# Altium footprint library Transistor.PcbLib: 227 footprints (part 11 of 15)
Each footprint in its own frame and in the unit in brackets; x right, y up, seen from the top. Pads: shape width x height; smd on the part's side, far side on the other; paste and mask are expansions set on the pad; w line width, h text height; cw(c..) or ccw(c..) is an arc to the next point about the centre after c.
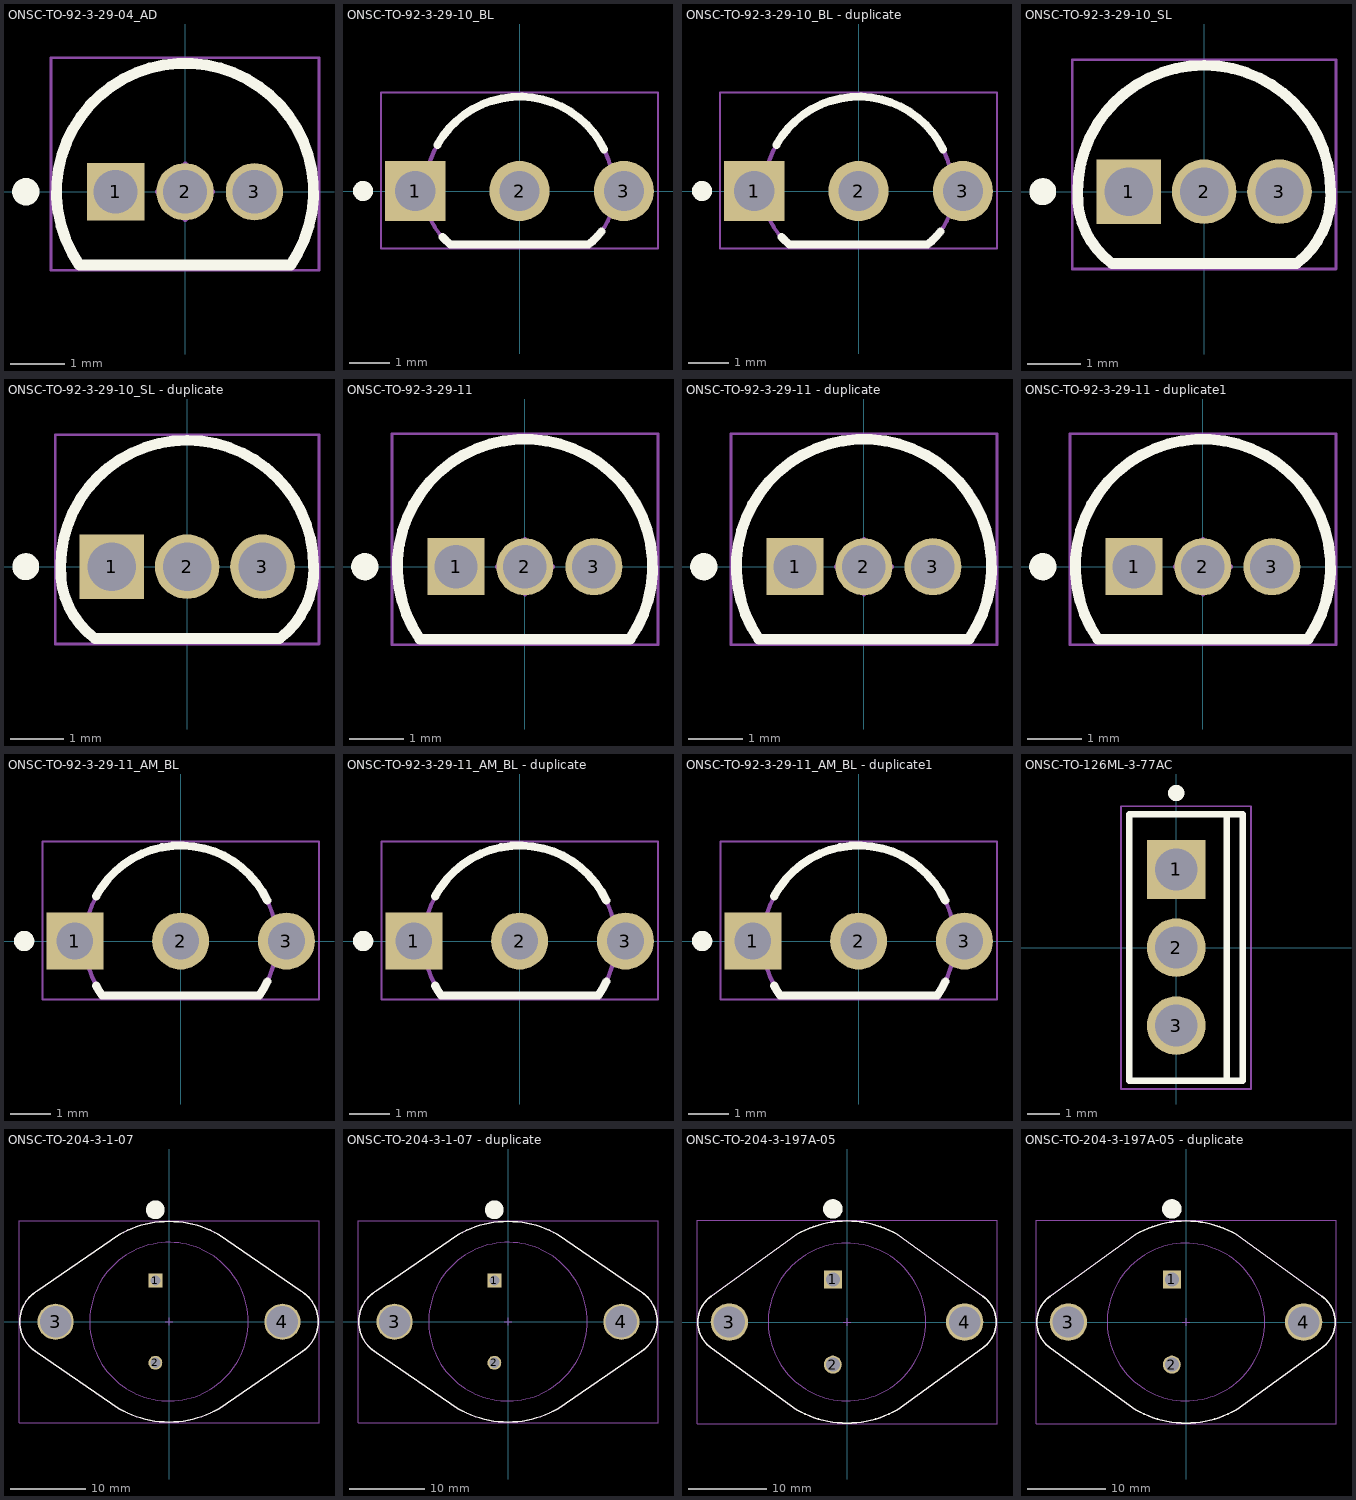
[diagram p10: the footprints below, top view; thin cyan lines are the x and y axes]

## ONSC-TO-92-3-29-04_AD [mm] "TO, 3-Leads, Body Dia 4.7mm, Pitch 1.27mm"
height 7.87
pads (3):
  rect 1.05x1.05 hole 0.8: 1(-1.27,0)
  round 1.05 hole 0.8: 2(0,0) 3(1.27,0)
Top Overlay:
  circle w0.25: c-2.911,0 r0.125
  lines w0.2: -1.933,-1.337 cw(c0,0) 1.933,-1.337 -1.933,-1.337
Mechanical 13:
  lines w0.1: -1.933,-1.337 cw(c0,0) 1.933,-1.337 ; -1.933,-1.335 1.933,-1.335
Mechanical 15:
  lines w0.05: -2.45,-1.435 2.45,-1.435 2.45,2.45 -2.45,2.45 -2.45,-1.435
  lines w0.1: -0.5,0 0.5,0 ; 0,-0.5 0,0.5
3D body: height 7.87, standoff 2.54, extent -2.357,-1.335 2.349,2.359

## ONSC-TO-92-3-29-10_BL [mm] "TO, 3-Leads, Body Dia 4.7 mm, Pitch 2.6 mm"
height 10.41
pads (3):
  rect 1.5x1.5 hole 1: 1(-2.6,0)
  round 1.5 hole 1: 2(0,0) 3(2.6,0)
Top Overlay:
  circle w0.25: c-3.9,0 r0.125
  lines w0.2: -2.05,1.15 cw(c0,0) 2.108,1.04 ; -1.922,-1.15 ccw(c-0.773,-0.068) -1.715,-1.335 1.715,-1.335 ccw(c0.773,-0.068) 2.043,-1.006
Mechanical 13:
  lines w0.1: -2.35,0 ccw(c-0.773,-0.068) -1.715,-1.335 1.715,-1.335 ccw(c0.773,-0.068) 2.35,0 ; -2.35,0 cw(c0,0) 2.35,0
Mechanical 15:
  lines w0.05: -3.45,-1.435 3.45,-1.435 3.45,2.45 -3.45,2.45 -3.45,-1.435
  lines w0.1: -0.5,0 0.5,0 ; 0,-0.5 0,0.5
3D body: height 10.41, standoff 2.54, extent -2.359,-1.336 2.352,0
3D body: height 7.87, standoff 2.54, extent -2.351,-0.001 2.351,2.351

## ONSC-TO-92-3-29-10_BL - duplicate [mm] "TO, 3-Leads, Body Dia 4.7 mm, Pitch 2.6 mm"
height 10.41
pads (3):
  rect 1.5x1.5 hole 1: 1(-2.6,0)
  round 1.5 hole 1: 2(0,0) 3(2.6,0)
Top Overlay:
  circle w0.25: c-3.9,0 r0.125
  lines w0.2: -2.05,1.15 cw(c0,0) 2.108,1.04 ; -1.922,-1.15 ccw(c-0.773,-0.068) -1.715,-1.335 1.715,-1.335 ccw(c0.773,-0.068) 2.043,-1.006
Mechanical 13:
  lines w0.1: -2.35,0 ccw(c-0.773,-0.068) -1.715,-1.335 1.715,-1.335 ccw(c0.773,-0.068) 2.35,0 ; -2.35,0 cw(c0,0) 2.35,0
Mechanical 15:
  lines w0.05: -3.45,-1.435 -3.45,2.45 3.45,2.45 3.45,-1.435 -3.45,-1.435
  lines w0.1: -0.5,0 0.5,0 ; 0,-0.5 0,0.5
3D body: height 7.87, standoff 2.54, extent -2.351,-0.001 2.351,2.351
3D body: height 10.41, standoff 2.54, extent -2.359,-1.336 2.352,0

## ONSC-TO-92-3-29-10_SL [mm] "TO, 3-Leads, Body Dia 4.7 mm, Pitch 1.27mm"
height 10.41
pads (3):
  rect 1.2x1.2 hole 0.9: 1(-1.4,0)
  round 1.2 hole 0.9: 2(0,0) 3(1.4,0)
Top Overlay:
  circle w0.25: c-3,0 r0.125
  lines w0.2: -2.35,0 ccw(c-0.773,-0.068) -1.715,-1.335 1.715,-1.335 ccw(c0.773,-0.068) 2.35,0 ; -2.35,0 cw(c0,0) 2.35,0
Mechanical 13:
  lines w0.1: -2.35,0 ccw(c-0.773,-0.068) -1.715,-1.335 1.715,-1.335 ccw(c0.773,-0.068) 2.35,0 ; -2.35,0 cw(c0,0) 2.35,0
Mechanical 15:
  lines w0.05: -2.45,-1.435 -2.45,2.45 2.45,2.45 2.45,-1.435 -2.45,-1.435
  lines w0.1: -0.5,0 0.5,0 ; 0,-0.5 0,0.5
3D body: height 10.41, standoff 2.54, extent -2.352,-1.335 2.359,2.351

## ONSC-TO-92-3-29-10_SL - duplicate [mm] "TO, 3-Leads, Body Dia 4.7 mm, Pitch 1.27mm"
height 10.41
pads (3):
  rect 1.2x1.2 hole 0.9: 1(-1.4,0)
  round 1.2 hole 0.9: 2(0,0) 3(1.4,0)
Top Overlay:
  circle w0.25: c-3,0 r0.125
  lines w0.2: -2.35,0 ccw(c-0.773,-0.068) -1.715,-1.335 1.715,-1.335 ccw(c0.773,-0.068) 2.35,0 ; -2.35,0 cw(c0,0) 2.35,0
Mechanical 13:
  lines w0.1: -2.35,0 ccw(c-0.773,-0.068) -1.715,-1.335 1.715,-1.335 ccw(c0.773,-0.068) 2.35,0 ; -2.35,0 cw(c0,0) 2.35,0
Mechanical 15:
  lines w0.05: -2.45,-1.435 -2.45,2.45 2.45,2.45 2.45,-1.435 -2.45,-1.435
  lines w0.1: -0.5,0 0.5,0 ; 0,-0.5 0,0.5
3D body: height 10.41, standoff 2.54, extent -2.352,-1.335 2.359,2.351

## ONSC-TO-92-3-29-11 [mm] "TO, 3-Leads, Body Dia 4.7mm, Pitch 1.27mm"
height 7.87
pads (3):
  rect 1.05x1.05 hole 0.8: 1(-1.27,0)
  round 1.05 hole 0.8: 2(0,0) 3(1.27,0)
Top Overlay:
  circle w0.25: c-2.95,0 r0.125
  lines w0.2: -1.934,-1.335 cw(c0,0) 1.934,-1.335 -1.934,-1.335
Mechanical 13:
  lines w0.1: -1.934,-1.335 cw(c0,0) 1.934,-1.335 -1.934,-1.335
Mechanical 15:
  lines w0.05: -2.45,-1.435 2.45,-1.435 2.45,2.45 -2.45,2.45 -2.45,-1.435
  lines w0.1: -0.5,0 0.5,0 ; 0,-0.5 0,0.5
3D body: height 7.87, standoff 2.54, extent -2.349,-1.334 2.357,2.359

## ONSC-TO-92-3-29-11 - duplicate [mm] "TO, 3-Leads, Body Dia 4.7mm, Pitch 1.27mm"
height 7.87
pads (3):
  rect 1.05x1.05 hole 0.8: 1(-1.27,0)
  round 1.05 hole 0.8: 2(0,0) 3(1.27,0)
Top Overlay:
  circle w0.25: c-2.95,0 r0.125
  lines w0.2: -1.934,-1.335 cw(c0,0) 1.934,-1.335 -1.934,-1.335
Mechanical 13:
  lines w0.1: -1.934,-1.335 cw(c0,0) 1.934,-1.335 -1.934,-1.335
Mechanical 15:
  lines w0.05: -2.45,-1.435 -2.45,2.45 2.45,2.45 2.45,-1.435 -2.45,-1.435
  lines w0.1: -0.5,0 0.5,0 ; 0,-0.5 0,0.5
3D body: height 7.87, standoff 2.54, extent -2.349,-1.334 2.357,2.359

## ONSC-TO-92-3-29-11 - duplicate1 [mm] "TO, 3-Leads, Body Dia 4.7mm, Pitch 1.27mm"
height 7.87
pads (3):
  rect 1.05x1.05 hole 0.8: 1(-1.27,0)
  round 1.05 hole 0.8: 2(0,0) 3(1.27,0)
Top Overlay:
  circle w0.25: c-2.95,0 r0.125
  lines w0.2: -1.934,-1.335 cw(c0,0) 1.934,-1.335 -1.934,-1.335
Mechanical 13:
  lines w0.1: -1.934,-1.335 cw(c0,0) 1.934,-1.335 -1.934,-1.335
Mechanical 15:
  lines w0.05: -2.45,-1.435 -2.45,2.45 2.45,2.45 2.45,-1.435 -2.45,-1.435
  lines w0.1: -0.5,0 0.5,0 ; 0,-0.5 0,0.5
3D body: height 7.87, standoff 2.54, extent -2.349,-1.334 2.357,2.359

## ONSC-TO-92-3-29-11_AM_BL [mm] "TO, 3-Leads, Body Dia 4.7mm, Pitch 2.6mm"
height 8.923
pads (3):
  rect 1.4x1.4 hole 0.9: 1(-2.6,0)
  round 1.4 hole 0.9: 2(0,0) 3(2.6,0)
Top Overlay:
  circle w0.25: c-3.85,0 r0.125
  lines w0.2: -2.077,-1.1 ccw(c0,0) -1.934,-1.335 1.934,-1.335 ccw(c0,0) 2.129,-0.994 ; -2.077,1.1 cw(c0,0) 2.129,0.994
Mechanical 13:
  lines w0.1: -1.934,-1.335 cw(c0,0) 1.934,-1.335 -1.934,-1.335
Mechanical 15:
  lines w0.05: -3.4,-1.435 3.4,-1.435 3.4,2.45 -3.4,2.45 -3.4,-1.435
  lines w0.1: -0.5,0 0.5,0 ; 0,-0.5 0,0.5
3D body: height 8.92, standoff 1.5, extent -2.359,-1.335 2.359,2.351
3D body "PCB3.step": height 4, standoff -8.7, extent -2.836,-0.222 2.836,0.223

## ONSC-TO-92-3-29-11_AM_BL - duplicate [mm] "TO, 3-Leads, Body Dia 4.7mm, Pitch 2.6mm"
height 8.923
pads (3):
  rect 1.4x1.4 hole 0.9: 1(-2.6,0)
  round 1.4 hole 0.9: 2(0,0) 3(2.6,0)
Top Overlay:
  circle w0.25: c-3.85,0 r0.125
  lines w0.2: -2.077,-1.1 ccw(c0,0) -1.934,-1.335 1.934,-1.335 ccw(c0,0) 2.129,-0.994 ; -2.077,1.1 cw(c0,0) 2.129,0.994
Mechanical 13:
  lines w0.1: -1.934,-1.335 cw(c0,0) 1.934,-1.335 -1.934,-1.335
Mechanical 15:
  lines w0.05: -3.4,-1.435 -3.4,2.45 3.4,2.45 3.4,-1.435 -3.4,-1.435
  lines w0.1: -0.5,0 0.5,0 ; 0,-0.5 0,0.5
3D body "PCB3.step": height 4, standoff -8.7, extent -2.836,-0.222 2.836,0.223
3D body: height 8.92, standoff 1.5, extent -2.359,-1.335 2.359,2.351

## ONSC-TO-92-3-29-11_AM_BL - duplicate1 [mm] "TO, 3-Leads, Body Dia 4.7mm, Pitch 2.6mm"
height 8.923
pads (3):
  rect 1.4x1.4 hole 0.9: 1(-2.6,0)
  round 1.4 hole 0.9: 2(0,0) 3(2.6,0)
Top Overlay:
  circle w0.25: c-3.85,0 r0.125
  lines w0.2: -2.077,-1.1 ccw(c0,0) -1.934,-1.335 1.934,-1.335 ccw(c0,0) 2.129,-0.994 ; -2.077,1.1 cw(c0,0) 2.129,0.994
Mechanical 13:
  lines w0.1: -1.934,-1.335 cw(c0,0) 1.934,-1.335 -1.934,-1.335
Mechanical 15:
  lines w0.05: -3.4,-1.435 -3.4,2.45 3.4,2.45 3.4,-1.435 -3.4,-1.435
  lines w0.1: -0.5,0 0.5,0 ; 0,-0.5 0,0.5
3D body "PCB3.step": height 4, standoff -8.7, extent -2.836,-0.222 2.836,0.223
3D body: height 8.92, standoff 1.5, extent -2.359,-1.335 2.359,2.351

## ONSC-TO-126ML-3-77AC [mm] "FM, 3-Leads, Body 8.2x3.5mm, Pitch 2.4mm"
height 12.5
pads (3):
  rect 1.8x1.8 hole 1.3: 1(0,2.4)
  round 1.8 hole 1.3: 2(0,0) 3(0,-2.4)
Top Overlay:
  circle w0.25: c0,4.75 r0.125
  lines w0.2: 1.55,-4.1 1.55,4.1 ; -1.45,-4.1 -1.45,4.1 2.05,4.1 2.05,-4.1 -1.45,-4.1
Mechanical 13:
  lines w0.1: 2.05,-4.1 2.05,4.1 ; 2.05,-4.1 -1.45,-4.1 -1.45,4.1 2.05,4.1 ; 2.05,-4.1 2.05,4.1
Mechanical 15:
  lines w0.05: -1.7,-4.35 2.3,-4.35 2.3,4.35 -1.7,4.35 -1.7,-4.35
  lines w0.1: -0.5,0 0.5,0 ; 0,-0.5 0,0.5
3D body: height 13.1, standoff 12.5, extent 2.05,-4 2.05,4
3D body: height 12.5, standoff 1.2, extent -1.45,-4.1 2.05,4.1
3D body: height 0, standoff -1.6, extent -0.35,-2.8 0.35,-2
3D body: height 1.2, standoff 0, extent -0.35,-3.2 0.35,-1.6
3D body: height 0, standoff -1.6, extent -0.35,-0.4 0.35,0.4
3D body: height 1.2, standoff 0, extent -0.35,-0.8 0.35,0.8
3D body: height 0, standoff -1.6, extent -0.35,2 0.35,2.8
3D body: height 1.2, standoff 0, extent -0.35,1.6 0.35,3.2

## ONSC-TO-204-3-1-07 [mm] "TO-204, Pin Spacing 10.92mm, Lead Dia. 1.09 mm (max)"
height 8.51
pads (4):
  rect 1.85x1.85 hole 1.35: 1(-1.815,5.46)
  round 1.85 hole 1.35: 2(-1.815,-5.46)
  round 4.8 hole 4.19 mask+0.102: 3(-15.075,0) 4(15.075,0)
Top Overlay:
  circle w1.25: c-1.815,14.875 r0.625
  lines w0.2: -19.845,0 ccw(c-15.075,0) -17.46,-4.131 -6.667,-11.548 ccw(c0,0) 6.668,-11.548 17.46,-4.131 ccw(c15.075,0) 19.845,0 ccw(c15.075,0) 17.46,4.131 6.667,11.548 ccw(c0,0) -6.668,11.548 -17.46,4.131 ccw(c-15.075,0) -19.845,0
Mechanical 13:
  circle w0.1: c0,0 r10.54
  lines w0.1: -17.981,-3.791 -6.475,-11.681 ; -17.811,3.907 -6.475,11.681 ; -17.46,-4.131 cw(c-15.075,0) -19.845,0 cw(c-15.075,0) -17.46,4.131 ; -6.667,-11.548 ccw(c0,0) 6.668,-11.548 ; -6.668,11.548 cw(c0,0) 6.667,11.548 ; 6.475,-11.681 17.811,-3.907 ; 6.475,11.681 17.981,3.791 ; 17.46,-4.131 ccw(c15.075,0) 19.845,0 ccw(c15.075,0) 17.46,4.131 ; 12.98,0 cw(c15.075,0) 17.17,0 cw(c15.075,0) 12.98,0
Mechanical 15:
  lines w0.05: -19.939,-13.45 19.939,-13.45 19.939,13.45 -19.939,13.45 -19.939,-13.45
  lines w0.1: -0.5,0 0.5,0 ; 0,-0.5 0,0.5
3D body: height 8.51, standoff 1.77, extent -10.539,-10.539 10.54,10.54
3D body: height 1.77, standoff 0, extent -19.845,0.001 19.844,13.334
3D body: height 1.77, standoff 0, extent -19.844,-13.334 19.845,-0.001

## ONSC-TO-204-3-1-07 - duplicate [mm] "TO-204, Pin Spacing 10.92mm, Lead Dia. 1.09 mm (max)"
height 8.51
pads (4):
  rect 1.85x1.85 hole 1.35: 1(-1.815,5.46)
  round 1.85 hole 1.35: 2(-1.815,-5.46)
  round 4.8 hole 4.19 mask+0.102: 3(-15.075,0) 4(15.075,0)
Top Overlay:
  circle w1.25: c-1.815,14.875 r0.625
  lines w0.2: -19.845,0 ccw(c-15.075,0) -17.46,-4.131 -6.667,-11.548 ccw(c0,0) 6.668,-11.548 17.46,-4.131 ccw(c15.075,0) 19.845,0 ccw(c15.075,0) 17.46,4.131 6.667,11.548 ccw(c0,0) -6.668,11.548 -17.46,4.131 ccw(c-15.075,0) -19.845,0
Mechanical 13:
  circle w0.1: c0,0 r10.54
  lines w0.1: -17.981,-3.791 -6.475,-11.681 ; -17.811,3.907 -6.475,11.681 ; -17.46,-4.131 cw(c-15.075,0) -19.845,0 cw(c-15.075,0) -17.46,4.131 ; -6.667,-11.548 ccw(c0,0) 6.668,-11.548 ; -6.668,11.548 cw(c0,0) 6.667,11.548 ; 6.475,-11.681 17.811,-3.907 ; 6.475,11.681 17.981,3.791 ; 17.46,-4.131 ccw(c15.075,0) 19.845,0 ccw(c15.075,0) 17.46,4.131 ; 12.98,0 cw(c15.075,0) 17.17,0 cw(c15.075,0) 12.98,0
Mechanical 15:
  lines w0.05: -19.939,-13.45 19.939,-13.45 19.939,13.45 -19.939,13.45 -19.939,-13.45
  lines w0.1: -0.5,0 0.5,0 ; 0,-0.5 0,0.5
3D body: height 8.51, standoff 1.77, extent -10.539,-10.539 10.54,10.54
3D body: height 1.77, standoff 0, extent -19.845,0.001 19.844,13.334
3D body: height 1.77, standoff 0, extent -19.844,-13.334 19.845,-0.001

## ONSC-TO-204-3-197A-05 [mm] "TO-204, Pin Spacing 10.92 mm, Lead Dia. 1.6 mm (max)"
height 8.51
pads (4):
  rect 2.3x2.3 hole 1.8: 1(-1.815,5.46)
  round 2.3 hole 1.8: 2(-1.815,-5.46)
  round 4.8 hole 4.015: 3(-15.075,0) 4(15.075,0)
Top Overlay:
  circle w1.25: c-1.815,14.492 r0.625
  lines w0.2: -17.449,-3.281 -6.478,-11.219 ccw(c0,0) 0,-12.955 ccw(c0,0) 6.478,-11.219 17.449,-3.281 ; -17.449,3.281 -6.478,11.219 cw(c0,0) 0,12.955 cw(c0,0) 6.478,11.219 17.449,3.281 ; -17.398,-3.318 cw(c-15.075,0) -19.125,0 cw(c-15.075,0) -17.398,3.318 ; 17.398,-3.318 ccw(c15.075,0) 19.125,0 ccw(c15.075,0) 17.398,3.318
Mechanical 13:
  circle w0.1: c0,0 r10.098
  circle w0.1: c-15.075,0 r2.007
  circle w0.1: c15.075,0 r2.007
  lines w0.1: -17.449,-3.281 -6.478,-11.219 ccw(c0,0) 0,-12.955 ccw(c0,0) 6.478,-11.219 17.449,-3.281 ; -17.449,3.281 -6.478,11.219 cw(c0,0) 0,12.955 cw(c0,0) 6.478,11.219 17.449,3.281 ; -17.398,-3.318 cw(c-15.075,0) -19.125,0 cw(c-15.075,0) -17.398,3.318 ; 17.398,-3.318 ccw(c15.075,0) 19.125,0 ccw(c15.075,0) 17.398,3.318
Mechanical 15:
  lines w0.05: -19.225,-13.055 -19.225,13.055 19.225,13.055 19.225,-13.055 -19.225,-13.055
  lines w0.1: -0.5,0 0.5,0 ; 0,-0.5 0,0.5
3D body: height 0, standoff -11.69, extent -2.577,4.698 -1.053,6.222
3D body: height 0, standoff -11.69, extent -2.577,-6.222 -1.053,-4.698
3D body: height 1.77, standoff 0, extent -19.124,-12.954 19.124,-0.001
3D body: height 1.77, standoff 0, extent -19.124,0.001 19.124,12.954
3D body: height 8.51, standoff 0, extent -10.097,-10.097 10.097,10.097

## ONSC-TO-204-3-197A-05 - duplicate [mm] "TO-204, Pin Spacing 10.92 mm, Lead Dia. 1.6 mm (max)"
height 8.51
pads (4):
  rect 2.3x2.3 hole 1.8: 1(-1.815,5.46)
  round 2.3 hole 1.8: 2(-1.815,-5.46)
  round 4.8 hole 4.015: 3(-15.075,0) 4(15.075,0)
Top Overlay:
  circle w1.25: c-1.815,14.492 r0.625
  lines w0.2: -17.449,-3.281 -6.478,-11.219 ccw(c0,0) 0,-12.955 ccw(c0,0) 6.478,-11.219 17.449,-3.281 ; -17.449,3.281 -6.478,11.219 cw(c0,0) 0,12.955 cw(c0,0) 6.478,11.219 17.449,3.281 ; -17.398,-3.318 cw(c-15.075,0) -19.125,0 cw(c-15.075,0) -17.398,3.318 ; 17.398,-3.318 ccw(c15.075,0) 19.125,0 ccw(c15.075,0) 17.398,3.318
Mechanical 13:
  circle w0.1: c0,0 r10.098
  circle w0.1: c-15.075,0 r2.007
  circle w0.1: c15.075,0 r2.007
  lines w0.1: -17.449,-3.281 -6.478,-11.219 ccw(c0,0) 0,-12.955 ccw(c0,0) 6.478,-11.219 17.449,-3.281 ; -17.449,3.281 -6.478,11.219 cw(c0,0) 0,12.955 cw(c0,0) 6.478,11.219 17.449,3.281 ; -17.398,-3.318 cw(c-15.075,0) -19.125,0 cw(c-15.075,0) -17.398,3.318 ; 17.398,-3.318 ccw(c15.075,0) 19.125,0 ccw(c15.075,0) 17.398,3.318
Mechanical 15:
  lines w0.05: -19.225,-13.055 -19.225,13.055 19.225,13.055 19.225,-13.055 -19.225,-13.055
  lines w0.1: -0.5,0 0.5,0 ; 0,-0.5 0,0.5
3D body: height 0, standoff -11.69, extent -2.577,4.698 -1.053,6.222
3D body: height 0, standoff -11.69, extent -2.577,-6.222 -1.053,-4.698
3D body: height 1.77, standoff 0, extent -19.124,-12.954 19.124,-0.001
3D body: height 1.77, standoff 0, extent -19.124,0.001 19.124,12.954
3D body: height 8.51, standoff 0, extent -10.097,-10.097 10.097,10.097